# Altium schematic symbol library MOC3052SR2M.Schlib: 1 symbol
Pins are listed as number, name and electrical type; pins without a type are passive.

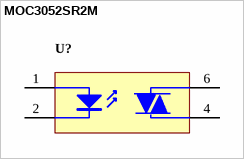
[diagram p0: symbol MOC3052SR2M]

## MOC3052SR2M
designator U?
pins: 1 Anode1, 2 Cathode1, 4 MAIN TERM, 6 MAIN TERM